# EAGLE library part EXO-3 (library digital)
EXO-3: Crystal oscillator (Golledge) CMOS, programmable
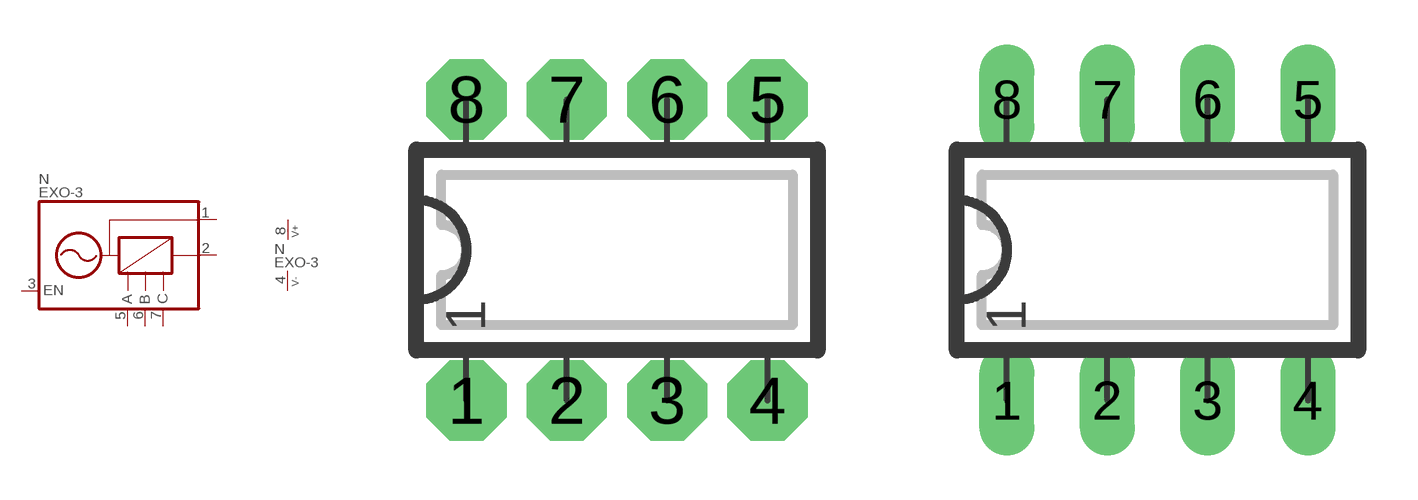
[diagram p25: symbol with the pads of DIP08N; footprints DIP08N, DIP08L]

Designator prefix N; gates  =EXO-3 P=V+-

## EXO-3N  [DIP08N]
1   :FO  out
2   :F0/2^N  out
3   :EN  in
4  P:V-  pwr
5   :A  in
6   :B  in
7   :C  in
8  P:V+  pwr

## EXO-3L  [DIP08L]
Pads as for DIP08N

## EXO-3  [DIP08L]
Pads as for DIP08N

## EXO-3R  [DIP08R]
Pads as for DIP08N

## Footprint DIP08N (pad centres in mm)
DIP-8 Standard IC package, 8 pins
drill 0.813 pad 2.032 octagon: 1 0,0; 2 2.54,0; 3 5.08,0; 4 7.62,0; 5 7.62,7.62; 6 5.08,7.62; 7 2.54,7.62; 8 0,7.62

## Footprint DIP08L (pad centres in mm)
DIP-8, long pads Standard IC package, 8 pins
drill 0.813 pad 1.397 long: 1 0,0; 2 2.54,0; 3 5.08,0; 4 7.62,0; 5 7.62,7.62; 6 5.08,7.62; 7 2.54,7.62; 8 0,7.62

## Footprint DIP08R (pad centres in mm)
DIP-8, reduced pads Standard IC package, 8 pins
drill 0.813 pad 1.397 square: 1 0,0; 2 2.54,0; 3 5.08,0; 4 7.62,0; 5 7.62,7.62; 6 5.08,7.62; 7 2.54,7.62; 8 0,7.62